# Altium schematic symbol library Mach dieu khien tu xa.SCHLIB: 24 symbols
Pins are listed as number, name and electrical type; pins without a type are passive.

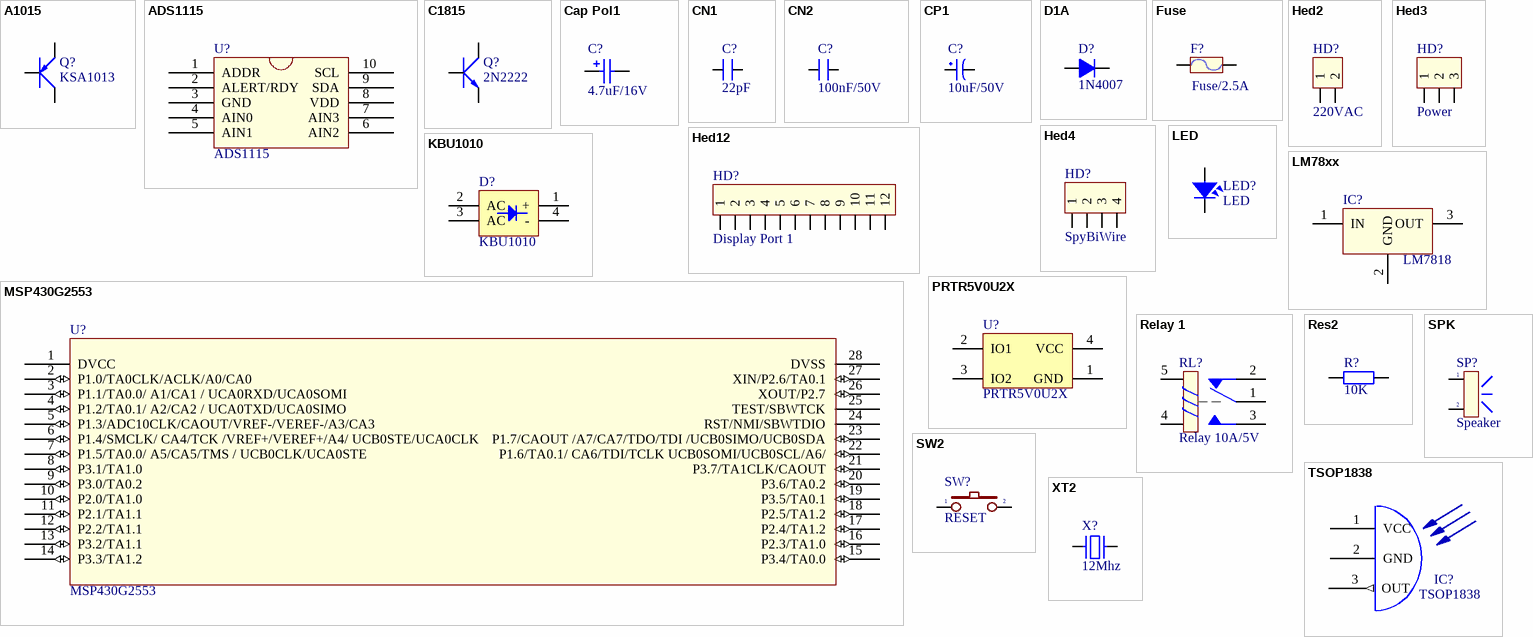
[diagram p0: symbols A1015 to XT2]

## A1015
designator Q?, comment KSA1013
PNP 600mW, ECB; Manufacturer: Fairchild Semiconductor; Value: KSA1013; Digikey: http://www.digikey.com/product-detail/en/KSA1013YBU/KSA1013YBUFS-ND/1048937; Datasheet: http://www.fairchildsemi.com/ds/KS/KSA1013.pdf
footprint KSA1013 (TO-92 Bent Lead, Flat Index; 3 In-Line, Axial Leads; Body Dia. 4.5mm; Leads 0.51 x 0.48 mm (max))
pins: 1 E, 2 C, 3 B

## ADS1115
designator U?
Analog to Digital Converter; Digikey: http://www.digikey.com/product-detail/en/ADS1115IDGST/296-24934-1-ND/2123298; Datasheet: http://www.ti.com/lit/ds/symlink/ads1113.pdf
footprint ADS1115 (MSOP-10, 16-Bit  Analog-to-Digital)
pins: 1 ADDR, 2 ALERT/RDY, 3 GND, 4 AIN0, 5 AIN1, 6 AIN2, 7 AIN3, 8 VDD, 9 SDA, 10 SCL

## C1815
designator Q?, comment 2N2222
TRANS GP SS NPN LP 40V TO92; Value: P2N2222AG; digikey: http://www.digikey.com/product-detail/en/P2N2222AG/P2N2222AGOS-ND/920244
footprint 2N2222 (TO-92 Bent Lead, Flat Index; 3 In-Line, Axial Leads; Body Dia. 4.5mm; Leads 0.51 x 0.48 mm (max))
pins: 1 E, 2 B, 3 C

## Cap Pol1
designator C?  value 4.7uF/16V  (hidden comment: Cap Pol1)
Polarized Capacitor (Radial); Published: 8-Jun-2000; LatestRevisionDate: 17-Jul-2002; LatestRevisionNote: Re-released for DXP Platform.; PackageReference: RB7.6-15; Publisher: Altium Limited; PackageDescription: Polarized Capacitor (Radial); 2 Leads
footprint C0805 (Chip Capacitor, 2-Leads, Body 2.0x1.3mm, IPC Medium Density)
simulation model CAP (Capacitor)
signal-integrity model Cap Pol
pins: 1, 2
1 alternate drawing of the same symbol

## CN1
designator C?, comment 22pF
0805-SMD Capacitor; Value: 22pF
footprint C0603
pins: 1, 2

## CN2
designator C?, comment 100nF/50V
Cap np 104 => 105pF; Value: 0.1uF
footprint Tu gom 104 (Capacitor, Radial, Tantalum, Non-Polarised; Body 3.05 x 1.78 x 3.43 mm (WxTxH max); Pin Spacing 2.54 mm (typ))
pins: 1, 2

## CP1
designator C?, comment 10uF/50V
Aluminium Capacitor
footprint C_FC_10UF_50V (ALUMINUM CAPACITOR 6.8x6.8x5.5mm)
pins: 1, 2
1 alternate drawing of the same symbol

## D1A
designator D?, comment 1N4007
Diode 1A; Value: 1N4007
footprint 1N4007 (DIODE_DIP)
footprint D2A (Diode 2A, W 150mil, L 450mil)
pins: 1 A, 2 K

## Fuse
designator F?, comment Fuse/2.5A
Fuse; Designed by: VanDungEvn; Value: Fuse
footprint FUSE2_5A (Fuse 2.5A  250V)
footprint FUSE1 (De Fuse Box)
footprint FUSE2 (Fuse)
pins: 1, 2

## Hed2
designator HD?, comment 220VAC
Header 2 (Green); Value: Header 2
footprint DOMINO2_GREEN (10A PIN TO PIN 5mm 11mmx11mm)
footprint HED2T (Header 2, 2 pin, hight 300mil, Pin to Pin 200, Colour Green)
footprint HED2B (Header 2, 2 pin, hight 300mil, Pin to Pin 150, Colour White)
pins: 1, 2

## Hed3
designator HD?, comment Power
Header 3 (Green); Value: Header 3
footprint CON3 (CON 3)
footprint HED3T (Header 3, 3 pin, hight 300mil, Pin to Pin 200, Colour Green)
footprint HED3B (Header 3, 3 pin, hight 300mil, Pin to Pin 150, Colour White)
pins: 1, 2, 3

## Hed4
designator HD?, comment SpyBiWire
Header 4 (Green); Value: Header 4
footprint Header_4 (Connector DIP, 4Pin_2.54mm)
footprint HED4T (Header 4, 4 pin, hight 300mil, Pin to Pin 200, Colour Green)
footprint HED4B (Header 4, 4 pin, hight 300mil, Pin to Pin 150, Colour White)
pins: 1, 2, 3, 4

## Hed12
designator HD?, comment Display Port 1
Header 12; Value: Header 5
footprint CON12
pins: 1, 2, 3, 4, 5, 6, 7, 8, 9, 10, 11, 12

## KBU1010
designator D?
10A glass passivated bridge rectifier; Digikey: http://www.digikey.com/product-detail/en/KBU1010-G/641-1359-ND/2074824; datasheet: http://www.comchiptech.com/cms/UserFiles/KBU10005-G%20Thru.%20KBU1010-G%20Series%20RevA.pdf
footprint KBU1010G (KBP206 bridge diode 10A)
pins: 1 + (power), 2 AC (power), 3 AC (power), 4 - (power)

## LED
designator LED?
LED Single colour Green and Red; Value: LED 3 ly Single Colour
footprint LED3R (LED 3mm_RED)
footprint LED-V (LED 2 PIN, Rectang Only colour)
footprint LED-O (LED 2 PIN,  Ovan Only colour)
footprint LED-5 GRe (LED 2 PIN, 5 ly , Only colour,pin to pin 100mil)
footprint LED-5TRED (LED 2 PIN, 5 ly , Only colour, pin to pin 110mil)
pins: 1, 2

## LM78xx
designator IC?, comment LM7818
Linear Regulator; Value: LM7818; digikey: http://www.digikey.com/product-detail/en/LM7818CT/LM7818CT-ND/1923054; datasheet: http://www.fairchildsemi.com/ds/LM/LM7805.pdf
footprint LM7805-KTE
footprint LM7805
pins: 1 IN, 2 GND, 3 OUT

## MSP430G2553
designator U?
MSP430G2553 (28 pins); Digikey: http://www.digikey.com/product-detail/en/MSP430G2553IPW28R/296-28431-1-ND/2638890; Datasheet: http://www.ti.com/lit/ds/symlink/msp430g2553.pdf
footprint MSP430G2253IPW28R (TSSOP PW 28  PIN TO PIN 0.65)
pins: 1 DVCC (power), 2 P1.0/TA0CLK/ACLK/A0/CA0 (io), 3 P1.1/TA0.0/ A1/CA1 / UCA0RXD/UCA0SOMI (io), 4 P1.2/TA0.1/ A2/CA2 / UCA0TXD/UCA0SIMO (io), 5 P1.3/ADC10CLK/CAOUT/VREF-/VEREF-/A3/CA3 (io), 6 P1.4/SMCLK/ CA4/TCK /VREF+/VEREF+/A4/ UCB0STE/UCA0CLK (io), 7 P1.5/TA0.0/ A5/CA5/TMS / UCB0CLK/UCA0STE (io), 8 P3.1/TA1.0 (io), 9 P3.0/TA0.2 (io), 10 P2.0/TA1.0 (io), 11 P2.1/TA1.1 (io), 12 P2.2/TA1.1 (io), 13 P3.2/TA1.1 (io), 14 P3.3/TA1.2 (io), 15 P3.4/TA0.0 (io), 16 P2.3/TA1.0 (io), 17 P2.4/TA1.2 (io), 18 P2.5/TA1.2 (io), 19 P3.5/TA0.1 (io), 20 P3.6/TA0.2 (io), 21 P3.7/TA1CLK/CAOUT (io), 22 P1.6/TA0.1/ CA6/TDI/TCLK UCB0SOMI/UCB0SCL/A6/ (io), 23 P1.7/CAOUT /A7/CA7/TDO/TDI /UCB0SIMO/UCB0SDA (io), 24 RST/NMI/SBWTDIO, 25 TEST/SBWTCK, 26 XOUT/P2.7 (io), 27 XIN/P2.6/TA0.1 (io), 28 DVSS

## PRTR5V0U2X
designator U?
ESD protection diode; digikey: http://www.digikey.com/product-detail/en/PRTR5V0U2X,215/568-4140-1-ND/1589981; datasheet: http://www.nxp.com/documents/data_sheet/PRTR5V0U2X.pdf
footprint PRTR5V0U2X (SOT143B Ultra low capacitance double rail-to-rail ESD protection diode)
pins: 1 GND, 2 IO1, 3 IO2, 4 VCC

## Relay 1
designator RL?, comment Relay 10A/5V
Relay SPDT,10A - 12VDC 5 Pin; Value: Relay SPDT, 10A, 12V
footprint RL_10A_5V (Relay SRD-05VDC-SL-C, 5 pin, 10A,19.1X15.5)
pins: 1, 2, 3, 4, 5

## Res2
designator R?  value 10K  (hidden comment: Res2)
Resistor; Published: 8-Jun-2000; LatestRevisionDate: 17-Jul-2002; LatestRevisionNote: Re-released for DXP Platform.; PackageReference: AXIAL-0.4; Publisher: Altium Limited; PackageDescription: Axial Device, Thru-Hole; 2 Leads; 0.4 in Pin Spacing
footprint AXIAL-0.4 (Axial Device, Thru-Hole; 2 Leads; 0.4 in Pin Spacing)
simulation model RESISTOR (Resistor)
signal-integrity model Res
footprint RESC2012(0805)
pins: 1, 2

## SPK
designator SP?, comment Speaker
Speaker Chip; Value: Speaker Chip
footprint SPEAKER (TMB12A05)
footprint SP1 (Speaker Telphone on Broad)
pins: 1, 2

## SW2
designator SW?, comment RESET
Switch button 2 pin; Value: SW chip 2 pin
footprint BUTTON 2PIN TRON (PIN TO PIN 5.08, W=6MM)
pins: 1, 2

## TSOP1838
designator IC?
footprint TSOP1838 (Connector DIP, 3Pin_2.54mm)
pins: 1 VCC (power), 2 GND (power), 3 OUT (out)

## XT2
designator X?, comment 12Mhz
Crystal For all Crystal 2pin.; Value: 4Mhz
footprint CRYSTAL (Quartz Crystal, Thru-Hole; 2 Leads; Body 11.35 x 4.65 x 13.46 mm (LxWxH max))
footprint XT2N (Crystal 2pin, high 200 mil)
pins: 1, 2